# Altium footprint library PCBLibSynthe.PcbLib: 35 footprints (part 1 of 3)
Each footprint in its own frame and in the unit in brackets; x right, y up, seen from the top. Pads: shape width x height; smd on the part's side, far side on the other; paste and mask are expansions set on the pad; w line width, h text height; cw(c..) or ccw(c..) is an arc to the next point about the centre after c.
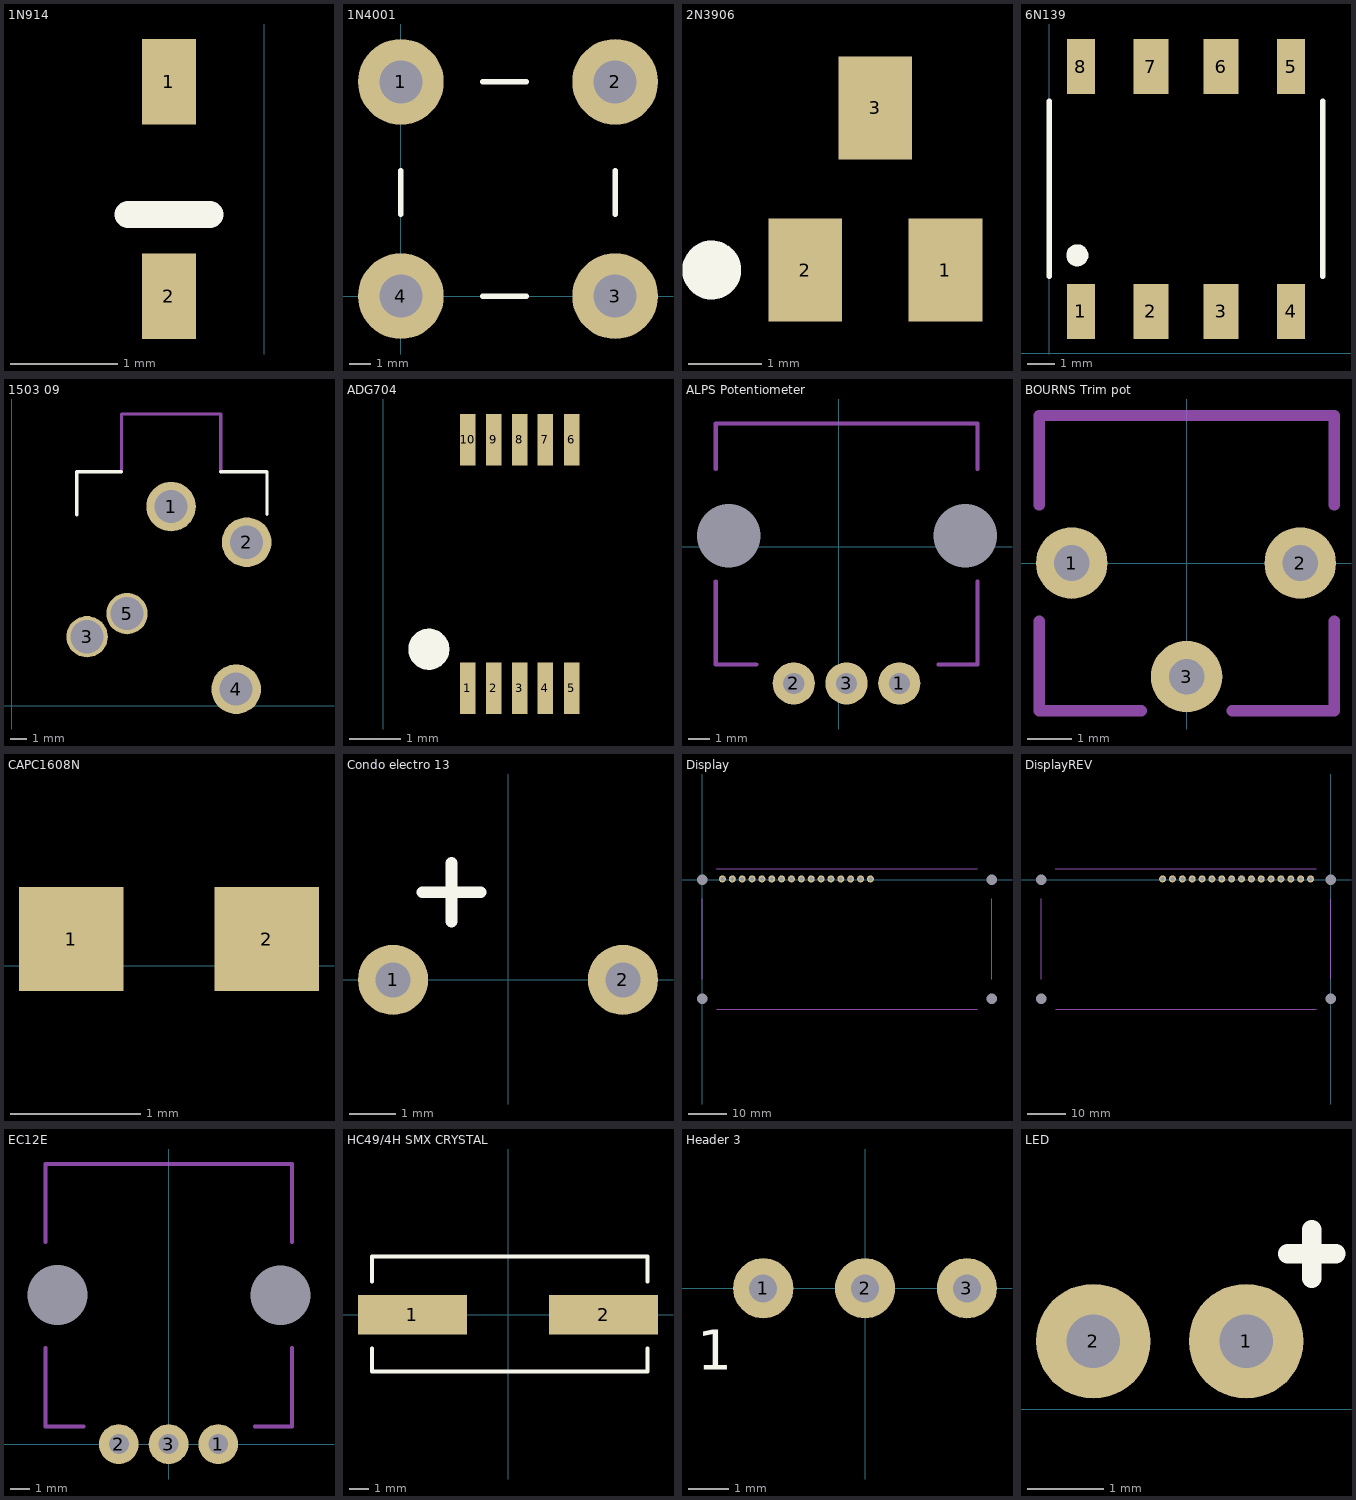
[diagram p0: the footprints below, top view; thin cyan lines are the x and y axes]

## 1N914 [mm] "Diode"
pads (2):
  rect 0.5x0.8 smd: 1(-0.889,3.396) 2(-0.889,1.396)
Top Overlay:
  lines w0.254: -1.27,2.159 -0.508,2.159

## 1N4001 [mm] "Diodes Alim"
pads (4):
  round 4 hole 2: 1(0,10) 2(10,10) 3(10,0) 4(0,0)
Top Overlay:
  lines w0.254: 0,3.81 0,5.842 ; 3.81,0 5.842,0 ; 3.81,10 5.842,10 ; 10,3.81 10,5.842

## 2N3906 [mm]
pads (3):
  rect 1x1.4 smd: 1(6.218,3.048) 2(4.318,3.048) 3(5.268,5.248)
Top Overlay:
  circle w0.4: c3.048,3.048 r0.2

## 6N139 [mil] "Optocoupleur"
pads (8):
  rect 40x78.74 smd: 1(45,60) 4(345,60) 5(345,409.13) 8(45,409.13)
  rect 50x78.74 smd: 2(145,60) 3(245,60) 6(245,409.13) 7(145,409.13)
Top Overlay:
  circle w15.75: c40,140 r7.87
  lines w7.87: 0,110 0,360 ; 390,110 390,360

## 1503 09 [mm] "Fiche JACK"
pads (5):
  round 3 hole 2 unplated: 1(9.652,12.065) 2(14.224,9.906) 4(13.589,1.016)
  round 2.5 hole 2 unplated: 3(4.572,4.191) 5(6.985,5.588)
Top Overlay:
  lines w0.2: 3.95,11.57 3.95,14.165 6.652,14.165 ; 12.652,14.165 15.45,14.165 15.45,11.601
Mechanical 1:
  lines w0.2: 6.652,14.165 6.652,17.665 12.652,17.665 12.652,14.165

## ADG704 [mm] "Multiplexeur"
pads (10):
  rect 0.3x1 smd mask+0.05: 1(1.651,1.651) 2(2.151,1.651) 3(2.659,1.651) 4(3.159,1.651) 5(3.675,1.651) 6(3.675,6.498) 7(3.159,6.498) 8(2.659,6.498) 9(2.151,6.498) 10(1.651,6.498)
Top Overlay:
  circle w0.4: c0.889,2.413 r0.2

## ALPS Potentiometer [mm] "Encodeur"
pads (5):
  round 0 hole 3 mask+0: 0(-5.207,0.531) 0(6.005,0.531)
  round 2 hole 1 mask+0: 1(2.877,-6.469) 2(-2.123,-6.469) 3(0.377,-6.469)
Mechanical 1:
  lines w0.2: -5.823,-1.643 -5.823,-5.58 -3.901,-5.58 ; -5.823,3.691 -5.823,5.842 6.577,5.842 6.577,3.691 ; 4.735,-5.58 6.577,-5.58 6.577,-1.643

## BOURNS Trim pot [mm]
pads (3):
  round 1.6 hole 0.8: 1(-2.57,0) 2(2.54,0) 3(0,-2.54)
Mechanical 1:
  lines w0.254: -3.3,-1.302 -3.3,-3.302 -1.016,-3.302 ; -3.3,1.3 -3.3,3.3 0,3.3 3.3,3.3 3.3,1.3 ; 1.016,-3.302 3.3,-3.302 3.3,-1.302

## CAPC1608N [mm]
pads (2):
  rect 0.8x0.8 smd: 1(0.838,0.203) 2(2.337,0.203)

## Condo electro 13 [mil]
pads (2):
  round 60 hole 30: 1(-98.43,0) 2(98.43,0)
Top Overlay:
  lines w10: -73.43,75 -23.43,75 -48.43,75 -48.43,50 -48.43,100

## Display [mm]
pads (20):
  round 0 hole 2.7 mask+0: 0(0,-30.607) 0(0,0) 0(74.549,-30.607) 0(74.549,0)
  round 1.8 hole 1: 1(5.2,0.193) 2(7.74,0.193) 3(10.28,0.193) 4(12.82,0.193) 5(15.36,0.193) 6(17.9,0.193) 7(20.44,0.193) 8(22.98,0.193) 9(25.52,0.193) 10(28.06,0.193) 11(30.6,0.193) 12(33.14,0.193) 13(35.68,0.193) 14(38.22,0.193) 15(40.76,0.193) 16(43.3,0.193)
Mechanical 1:
  lines w0.2: 0.007,-25.593 0.007,-4.892 ; 3.57,2.789 70.753,2.789 ; 3.69,-33.34 70.873,-33.34 ; 74.556,-25.593 74.556,-4.892

## DisplayREV [mm]
pads (20):
  round 0 hole 2.7 mask+0: 0(-74.549,-30.607) 0(-74.549,0) 0(0,-30.607) 0(0,0)
  round 1.8 hole 1: 1(-5.2,0.193) 2(-7.74,0.193) 3(-10.28,0.193) 4(-12.82,0.193) 5(-15.36,0.193) 6(-17.9,0.193) 7(-20.44,0.193) 8(-22.98,0.193) 9(-25.52,0.193) 10(-28.06,0.193) 11(-30.6,0.193) 12(-33.14,0.193) 13(-35.68,0.193) 14(-38.22,0.193) 15(-40.76,0.193) 16(-43.3,0.193)
Mechanical 1:
  lines w0.2: -74.542,-25.593 -74.542,-4.892 ; -70.979,2.789 -3.796,2.789 ; -70.859,-33.34 -3.676,-33.34 ; 0.007,-25.593 0.007,-4.892

## EC12E [mm] "Encodeur"
pads (5):
  round 0 hole 3 mask+0: 0(-5.584,7.5) 0(5.628,7.493)
  round 2 hole 1 mask+0: 1(2.5,0) 2(-2.5,0) 3(0,0)
Mechanical 1:
  lines w0.2: -6.2,4.826 -6.2,0.889 -4.278,0.889 ; -6.2,10.16 -6.2,14.089 6.2,14.089 6.2,10.16 ; 4.358,0.889 6.2,0.889 6.2,4.826

## HC49/4H SMX CRYSTAL [mm]
height 4.5
pads (2):
  rect 5.5x2 smd: 1(-4.826,0) 2(4.826,0)
Top Overlay:
  lines w0.2: -6.858,-1.7 -6.858,-2.86 7.042,-2.86 7.042,-1.7 ; -6.858,1.67 -6.858,2.94 7.042,2.94 7.042,1.67

## Header 3 [mm]
pads (3):
  round 1.5 hole 0.7: 1(-2.54,0) 2(0,0) 3(2.54,0)
Top Overlay:
  text "1" at -4.191,-2.032 h1

## LED [mm]
pads (2):
  round 1.5 hole 0.7: 1(3.27,0.889) 2(1.27,0.889)
Top Overlay:
  lines w0.254: 3.81,2.032 4.445,2.032 4.127,2.032 4.127,1.714 4.127,2.349